# EAGLE library part ATMEGA328PB-AU (library ATMEGA328PB_AU32A)
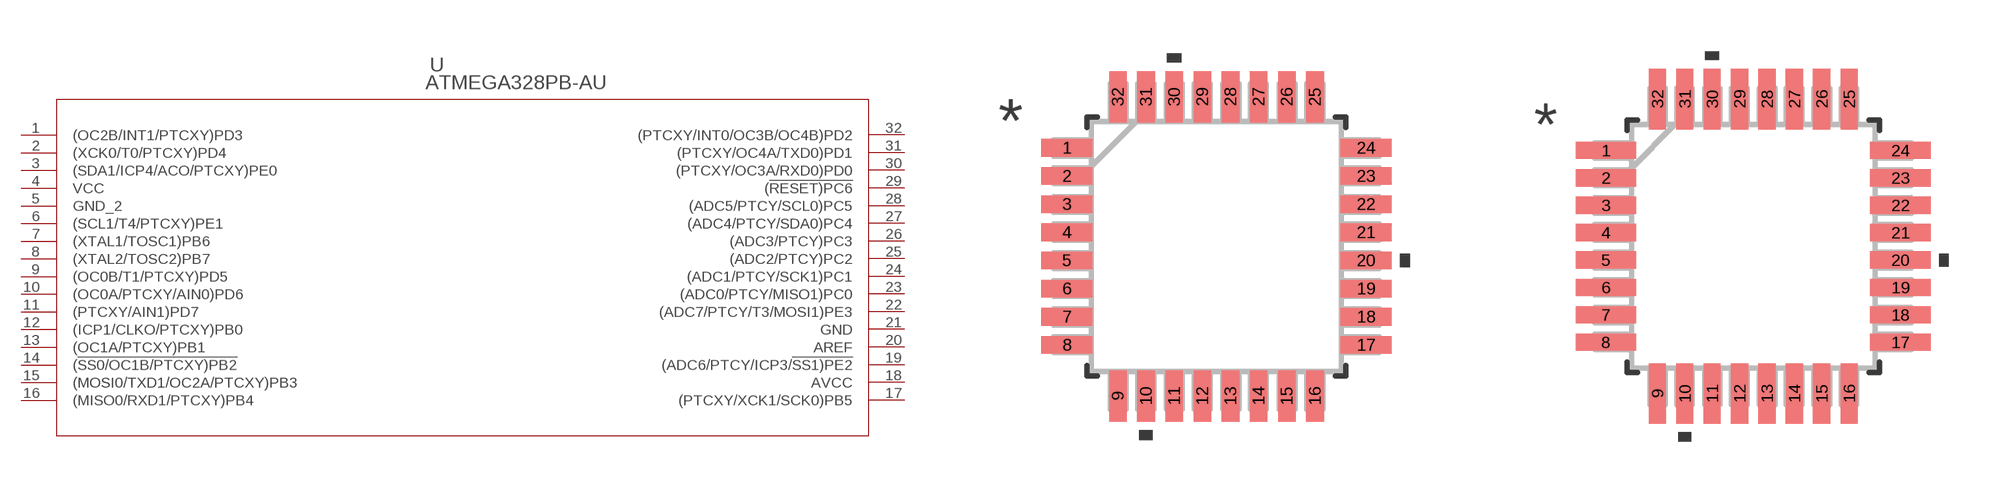
[diagram p0: symbol with the pads of 32A_MCH; footprints 32A_MCH, 32A_MCH-M]

Designator prefix U

## ATMEGA328PB-AU (COPYRIGHT: Copyright (C) 2024 Ultra Librarian. All rights reserved.; MANUFACTURER_PART_NUMBER: ATMEGA328PB-AU; MFR_NAME: Microchip)  [32A_MCH]
1  (OC2B/INT1/PTCXY)PD3
2  (XCK0/T0/PTCXY)PD4
3  (SDA1/ICP4/ACO/PTCXY)PE0
4  VCC  pwr
5  GND_2  pwr
6  (SCL1/T4/PTCXY)PE1
7  (XTAL1/TOSC1)PB6
8  (XTAL2/TOSC2)PB7
9  (OC0B/T1/PTCXY)PD5
10  (OC0A/PTCXY/AIN0)PD6
11  (PTCXY/AIN1)PD7
12  (ICP1/CLKO/PTCXY)PB0
13  (OC1A/PTCXY)PB1
14  (!SS0/OC1B/PTCXY)PB2
15  (MOSI0/TXD1/OC2A/PTCXY)PB3
16  (MISO0/RXD1/PTCXY)PB4
17  (PTCXY/XCK1/SCK0)PB5
18  AVCC  pwr
19  (ADC6/PTCY/ICP3/!SS1)PE2
20  AREF
21  GND  pwr
22  (ADC7/PTCY/T3/MOSI1)PE3
23  (ADC0/PTCY/MISO1)PC0
24  (ADC1/PTCY/SCK1)PC1
25  (ADC2/PTCY)PC2
26  (ADC3/PTCY)PC3
27  (ADC4/PTCY/SDA0)PC4
28  (ADC5/PTCY/SCL0)PC5
29  (!RESET)PC6
30  (PTCXY/OC3A/RXD0)PD0
31  (PTCXY/OC4A/TXD0)PD1
32  (PTCXY/INT0/OC3B/OC4B)PD2

## ATMEGA328PB-AU32A_MCH-M (COPYRIGHT: Copyright (C) 2024 Ultra Librarian. All rights reserved.; MANUFACTURER_PART_NUMBER: ATMEGA328PB-AU; MFR_NAME: Microchip)  [32A_MCH-M]
Pads as for 32A_MCH

## ATMEGA328PB-AU32A_MCH-L (COPYRIGHT: Copyright (C) 2024 Ultra Librarian. All rights reserved.; MANUFACTURER_PART_NUMBER: ATMEGA328PB-AU; MFR_NAME: Microchip)  [32A_MCH-L]
Pads as for 32A_MCH

## Footprint 32A_MCH (pad centres in mm)
smd 1.461 x 0.501: 1 -4.25,2.8; 2 -4.25,2; 3 -4.25,1.2; 4 -4.25,0.4; 5 -4.25,-0.4; 6 -4.25,-1.2; 7 -4.25,-2; 8 -4.25,-2.8; 17 4.25,-2.8; 18 4.25,-2; 19 4.25,-1.2; 20 4.25,-0.4; 21 4.25,0.4; 22 4.25,1.2; 23 4.25,2; 24 4.25,2.8
smd 0.501 x 1.461: 9 -2.8,-4.25; 10 -2,-4.25; 11 -1.2,-4.25; 12 -0.4,-4.25; 13 0.4,-4.25; 14 1.2,-4.25; 15 2,-4.25; 16 2.8,-4.25; 25 2.8,4.25; 26 2,4.25; 27 1.2,4.25; 28 0.4,4.25; 29 -0.4,4.25; 30 -1.2,4.25; 31 -2,4.25; 32 -2.8,4.25

## Footprint 32A_MCH-M (pad centres in mm)
smd 1.766 x 0.501: 1 -4.301,2.8; 2 -4.301,2; 3 -4.301,1.2; 4 -4.301,0.4; 5 -4.301,-0.4; 6 -4.301,-1.2; 7 -4.301,-2; 8 -4.301,-2.8; 17 4.301,-2.8; 18 4.301,-2; 19 4.301,-1.2; 20 4.301,-0.4; 21 4.301,0.4; 22 4.301,1.2; 23 4.301,2; 24 4.301,2.8
smd 0.501 x 1.766: 9 -2.8,-4.301; 10 -2,-4.301; 11 -1.2,-4.301; 12 -0.4,-4.301; 13 0.4,-4.301; 14 1.2,-4.301; 15 2,-4.301; 16 2.8,-4.301; 25 2.8,4.301; 26 2,4.301; 27 1.2,4.301; 28 0.4,4.301; 29 -0.4,4.301; 30 -1.2,4.301; 31 -2,4.301; 32 -2.8,4.301

## Footprint 32A_MCH-L (pad centres in mm)
smd 1.156 x 0.45: 1 -4.199,2.8; 2 -4.199,2; 3 -4.199,1.2; 4 -4.199,0.4; 5 -4.199,-0.4; 6 -4.199,-1.2; 7 -4.199,-2; 8 -4.199,-2.8; 17 4.199,-2.8; 18 4.199,-2; 19 4.199,-1.2; 20 4.199,-0.4; 21 4.199,0.4; 22 4.199,1.2; 23 4.199,2; 24 4.199,2.8
smd 0.45 x 1.156: 9 -2.8,-4.199; 10 -2,-4.199; 11 -1.2,-4.199; 12 -0.4,-4.199; 13 0.4,-4.199; 14 1.2,-4.199; 15 2,-4.199; 16 2.8,-4.199; 25 2.8,4.199; 26 2,4.199; 27 1.2,4.199; 28 0.4,4.199; 29 -0.4,4.199; 30 -1.2,4.199; 31 -2,4.199; 32 -2.8,4.199